# Altium schematic symbol library IPL1-106-02-L-D-K.SchLib: 1 symbol
Pins are listed as number, name and electrical type; pins without a type are passive.

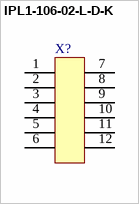
[diagram p0: symbol IPL1-106-02-L-D-K]

## IPL1-106-02-L-D-K
designator X?
IPL1-106-02-L-D-K; AN: 30763; Mixed: SMT; H-ART: IPL1-106-02-L-D-K-TR; Temperature-Range: -55/+125; Extra: Connector Header IPL1, 2-row 12pos, key polarization, SMT 0°; Case: IPL1; HelpURL: b:\AD\adlib\datasheet\Samtec\IPL1-SMT\
footprint IPL1-106-02-L-D-K
pins: 1, 2, 3, 4, 5, 6, 7, 8, 9, 10, 11, 12
1 alternate drawing of the same symbol